# EAGLE library part WEMOS_LOLIN32_ESP32 (library WeMos_Boards)
WeMos LOLIN32 ESP 32 Module 3v3 ESP32 WiFi BT/BTL LiPo connectior
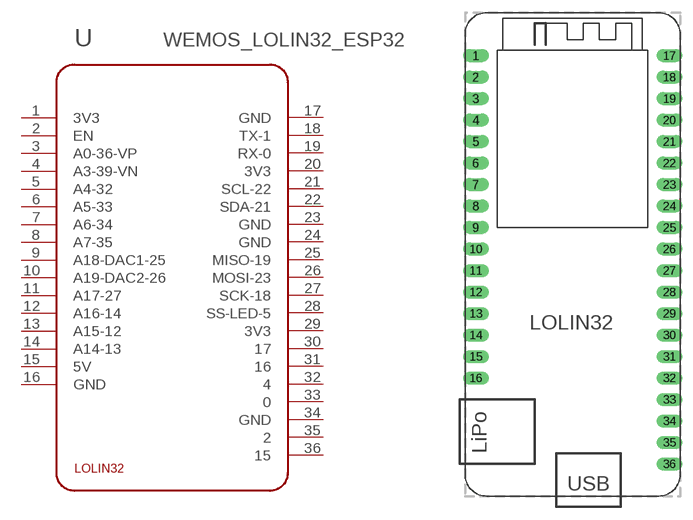
[diagram p0: symbol with the pads of WEMOS_LOLIN32_ESP32; footprint WEMOS_LOLIN32_ESP32]

Designator prefix -

## WEMOS_LOLIN32_ESP32  [WEMOS_LOLIN32_ESP32]
1  3V3  pwr
2  EN
3  A0-36-VP
4  A3-39-VN
5  A4-32
6  A5-33
7  A6-34
8  A7-35
9  A18-DAC1-25
10  A19-DAC2-26
11  A17-27
12  A16-14
13  A15-12
14  A14-13
15  5V  pwr
16  GND  pwr
17  GND  pwr
18  TX-1
19  RX-0
20  3V3
21  SCL-22
22  SDA-21
23  GND  pwr
24  GND  pwr
25  MISO-19
26  MOSI-23
27  SCK-18
28  SS-LED-5
29  3V3
30  17
31  16
32  4
33  0
34  GND
35  2
36  15

## Footprint WEMOS_LOLIN32_ESP32 (pad centres in mm)
WeMos Lolin32 ESP32 Board
drill 1.016 pad 1.27 long: 1 0,0; 2 0,-2.54; 3 0,-5.08; 4 0,-7.62; 5 0,-10.16; 6 0,-12.7; 7 0,-15.24; 8 0,-17.78; 9 0,-20.32; 10 0,-22.86; 11 0,-25.4; 12 0,-27.94; 13 0,-30.48; 14 0,-33.02; 15 0,-35.56; 16 0,-38.1; 17 22.86,0; 18 22.86,-2.54; 19 22.86,-5.08; 20 22.86,-7.62; 21 22.86,-10.16; 22 22.86,-12.7; 23 22.86,-15.24; 24 22.86,-17.78; 25 22.86,-20.32; 26 22.86,-22.86; 27 22.86,-25.4; 28 22.86,-27.94; 29 22.86,-30.48; 30 22.86,-33.02; 31 22.86,-35.56; 32 22.86,-38.1; 33 22.86,-40.64; 34 22.86,-43.18; 35 22.86,-45.72; 36 22.86,-48.26